# EAGLE library part MC68901FN (library micro-mc68000)
68xxx PROCESSOR
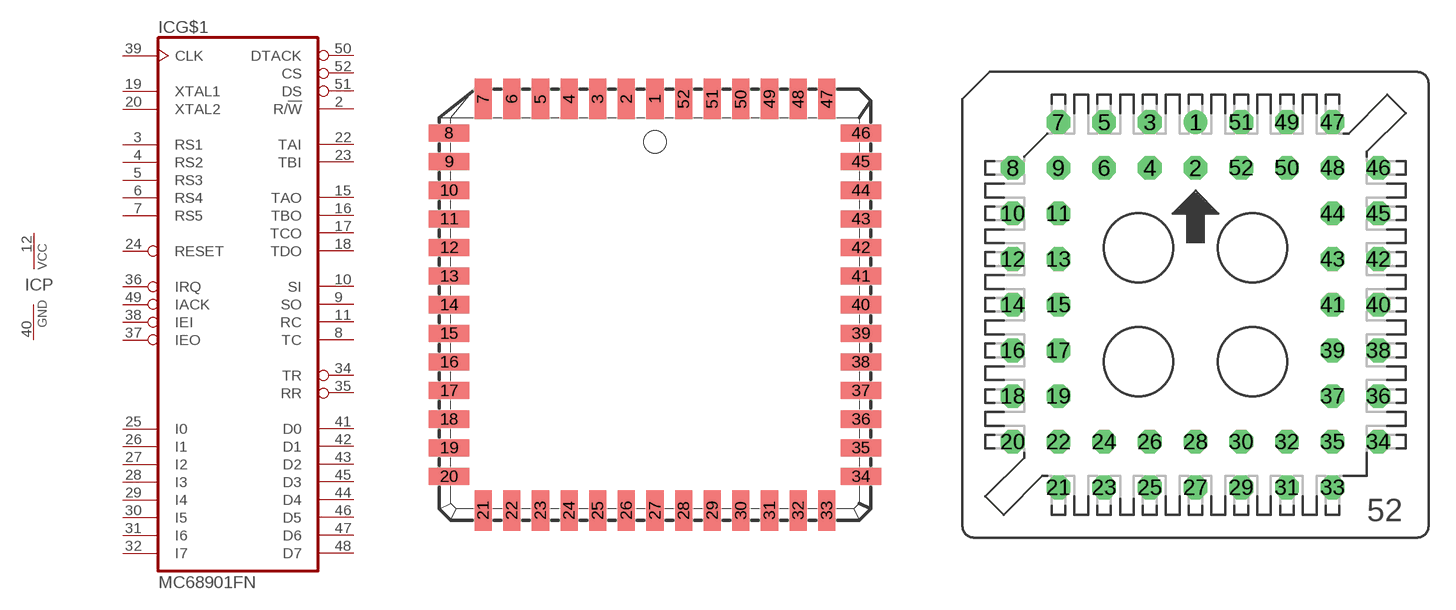
[diagram p8: symbol with the pads of PLCC52; footprints PLCC52, PLCC52-S]

Designator prefix IC; gates G$1=68901 P=PWRN

## MC68901FN (OC_FARNELL: unknown; OC_NEWARK: unknown)  [PLCC52]
2  G$1:R/!W  in
3  G$1:RS1  in
4  G$1:RS2  in
5  G$1:RS3  in
6  G$1:RS4  in
7  G$1:RS5  in
8  G$1:TC  in
9  G$1:SO  out
10  G$1:SI  in
11  G$1:RC  in
12  P:VCC  pwr
15  G$1:TAO  out
16  G$1:TBO  out
17  G$1:TCO  out
18  G$1:TDO  out
19  G$1:XTAL1  in
20  G$1:XTAL2  in
22  G$1:TAI  in
23  G$1:TBI  in
24  G$1:RESET  in
25  G$1:I0
26  G$1:I1
27  G$1:I2
28  G$1:I3
29  G$1:I4
30  G$1:I5
31  G$1:I6
32  G$1:I7
34  G$1:TR  out
35  G$1:RR  out
36  G$1:IRQ  out
37  G$1:IEO  out
38  G$1:IEI  in
39  G$1:CLK  in
40  P:GND  pwr
41  G$1:D0
42  G$1:D1
43  G$1:D2
44  G$1:D4
45  G$1:D3
46  G$1:D5
47  G$1:D6
48  G$1:D7
49  G$1:IACK  in
50  G$1:DTACK  out
51  G$1:DS  in
52  G$1:CS  in

## MC68901FN-SOC (OC_FARNELL: unknown; OC_NEWARK: unknown)  [PLCC52-S]
Pads as for PLCC52

## Footprint PLCC52 (pad centres in mm)
PLASTIC LEADED CHIP CARRIER square
smd 0.76 x 1.8: 1 0,9.13; 2 -1.27,9.13; 3 -2.54,9.13; 4 -3.81,9.13; 5 -5.08,9.13; 6 -6.35,9.13; 7 -7.62,9.13; 21 -7.62,-9.13; 22 -6.35,-9.13; 23 -5.08,-9.13; 24 -3.81,-9.13; 25 -2.54,-9.13; 26 -1.27,-9.13; 27 0,-9.13; 28 1.27,-9.13; 29 2.54,-9.13; 30 3.81,-9.13; 31 5.08,-9.13; 32 6.35,-9.13; 33 7.62,-9.13; 47 7.62,9.13; 48 6.35,9.13; 49 5.08,9.13; 50 3.81,9.13; 51 2.54,9.13; 52 1.27,9.13
smd 1.8 x 0.76: 8 -9.13,7.62; 9 -9.13,6.35; 10 -9.13,5.08; 11 -9.13,3.81; 12 -9.13,2.54; 13 -9.13,1.27; 14 -9.13,0; 15 -9.13,-1.27; 16 -9.13,-2.54; 17 -9.13,-3.81; 18 -9.13,-5.08; 19 -9.13,-6.35; 20 -9.13,-7.62; 34 9.13,-7.62; 35 9.13,-6.35; 36 9.13,-5.08; 37 9.13,-3.81; 38 9.13,-2.54; 39 9.13,-1.27; 40 9.13,0; 41 9.13,1.27; 42 9.13,2.54; 43 9.13,3.81; 44 9.13,5.08; 45 9.13,6.35; 46 9.13,7.62

## Footprint PLCC52-S (pad centres in mm)
PLCC Socked
drill 0.813: 1 0,10.16
drill 0.813 octagon: 2 0,7.62; 3 -2.54,10.16; 4 -2.54,7.62; 5 -5.08,10.16; 6 -5.08,7.62; 7 -7.62,10.16; 8 -10.16,7.62; 9 -7.62,7.62; 10 -10.16,5.08; 11 -7.62,5.08; 12 -10.16,2.54; 13 -7.62,2.54; 14 -10.16,0; 15 -7.62,0; 16 -10.16,-2.54; 17 -7.62,-2.54; 18 -10.16,-5.08; 19 -7.62,-5.08; 20 -10.16,-7.62; 21 -7.62,-10.16; 22 -7.62,-7.62; 23 -5.08,-10.16; 24 -5.08,-7.62; 25 -2.54,-10.16; 26 -2.54,-7.62; 27 0,-10.16; 28 0,-7.62; 29 2.54,-10.16; 30 2.54,-7.62; 31 5.08,-10.16; 32 5.08,-7.62; 33 7.62,-10.16; 34 10.16,-7.62; 35 7.62,-7.62; 36 10.16,-5.08; 37 7.62,-5.08; 38 10.16,-2.54; 39 7.62,-2.54; 40 10.16,0; 41 7.62,0; 42 10.16,2.54; 43 7.62,2.54; 44 7.62,5.08; 45 10.16,5.08; 46 10.16,7.62; 47 7.62,10.16; 48 7.62,7.62; 49 5.08,10.16; 50 5.08,7.62; 51 2.54,10.16; 52 2.54,7.62